# Altium footprint library 1754466.PcbLib: 1 footprints
Each footprint in its own frame and in the unit in brackets; x right, y up, seen from the top. Pads: shape width x height; smd on the part's side, far side on the other; paste and mask are expansions set on the pad; w line width, h text height; cw(c..) or ccw(c..) is an arc to the next point about the centre after c.
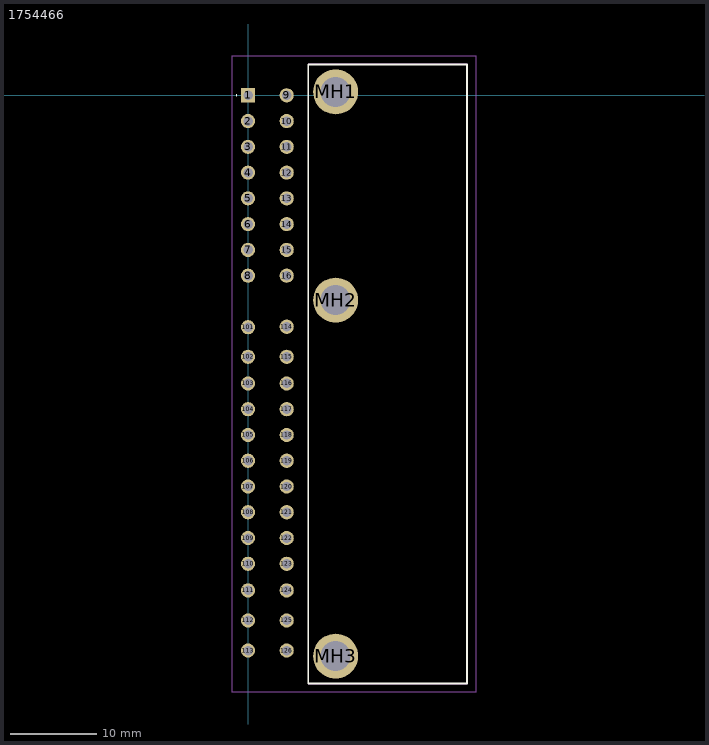
[diagram p0: the footprint, top view; thin cyan lines are the x and y axes]

## 1754466 [mm]
pads (45):
  rect 1.65x1.65 hole 1.1: 1(0,0)
  round 1.65 hole 1.1: 2(0,-3) 3(0,-6) 4(0,-9) 5(0,-12) 6(0,-15) 7(0,-18) 8(0,-21) 9(4.5,0) 10(4.5,-3) 11(4.5,-6) 12(4.5,-9) 13(4.5,-12) 14(4.5,-15) 15(4.5,-18) 16(4.5,-21) 101(0,-27) 102(0,-30.45) 103(0,-33.55) 104(0,-36.55) 105(0,-39.55) 106(0,-42.55) 107(0,-45.55) 108(0,-48.55) 109(0,-51.55) 110(0,-54.55) 111(0,-57.65) 112(0,-61.15) 113(0,-64.65) 114(4.5,-26.95) 115(4.5,-30.45) 116(4.5,-33.55) 117(4.5,-36.55) 118(4.5,-39.55) 119(4.5,-42.55) 120(4.5,-45.55) 121(4.5,-48.55) 122(4.5,-51.55) 123(4.5,-54.55) 124(4.5,-57.65) 125(4.5,-61.15) 126(4.5,-64.65)
  round 5.25 hole 3.5: MH1(10.2,0.4) MH2(10.2,-23.85) MH3(10.2,-65.3)
Top Overlay:
  lines w0.1: -1.4,0 -1.4,0 ; -1.4,0 ccw(c-1.35,0) -1.3,0 ; -1.4,0 cw(c-1.35,0) -1.3,0 ; -1.3,0 -1.3,0
  lines w0.2: 7,-68.5 25.5,-68.5 25.5,3.6 7,3.6 7,-68.5
Mechanical 15:
  lines w0.1: 7,-68.5 25.5,-68.5 25.5,3.6 7,3.6 7,-68.5
Mechanical 20:
  lines w0.1: -1.825,-69.5 26.5,-69.5 26.5,4.6 -1.825,4.6 -1.825,-69.5